# EAGLE library part MAX4610CSD (library AnalogSwitch_Mux)
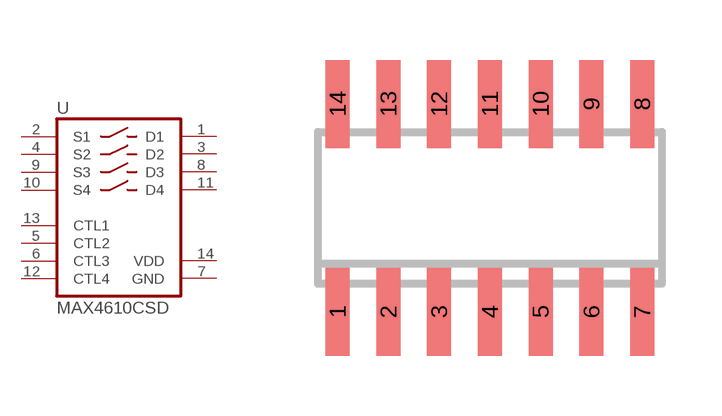
[diagram p1: symbol with the pads of 14SOIC; footprint 14SOIC]

Designator prefix -

## MAX4610CSD  [14SOIC]
1  D1  pas
2  S1  pas
3  D2  pas
4  S2  pas
5  CTL2  in
6  CTL3  in
7  GND  pwr
8  D3  pas
9  S3  pas
10  S4  pas
11  D4  pas
12  CTL4  in
13  CTL1  in
14  VDD  pwr

## Footprint 14SOIC (pad centres in mm)
smd 0.6 x 2.2: 1 -7.62,-0.06; 2 -6.35,-0.06; 3 -5.08,-0.06; 4 -3.81,-0.06; 5 -2.54,-0.06; 6 -1.27,-0.06; 7 0,-0.06; 8 0,5.14; 9 -1.27,5.14; 10 -2.54,5.14; 11 -3.81,5.14; 12 -5.08,5.14; 13 -6.35,5.14; 14 -7.62,5.14